# Altium footprint library mcu-chip.PcbLib: 82 footprints (part 2 of 6)
Each footprint in its own frame and in the unit in brackets; x right, y up, seen from the top. Pads: shape width x height; smd on the part's side, far side on the other; paste and mask are expansions set on the pad; w line width, h text height; cw(c..) or ccw(c..) is an arc to the next point about the centre after c.
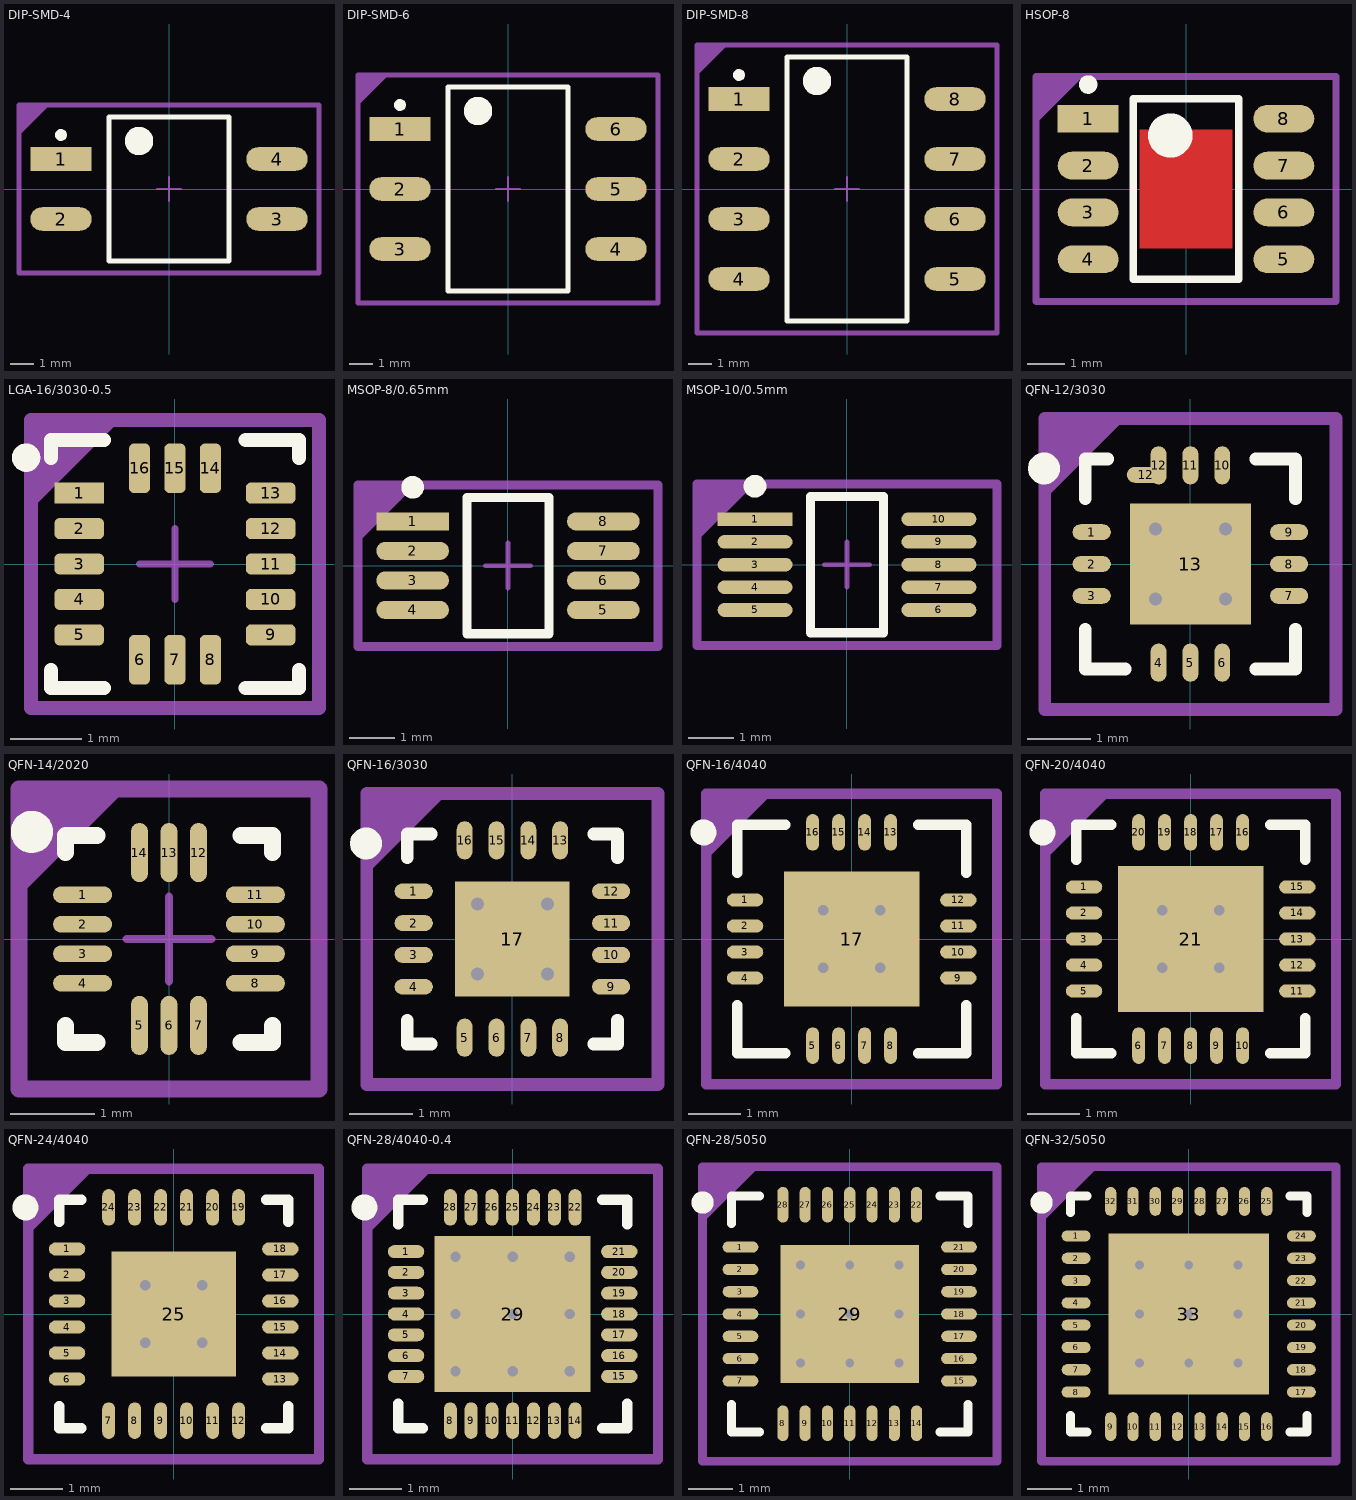
[diagram p1: the footprints below, top view; thin cyan lines are the x and y axes]

## DIP-SMD-4 [mm] "SOJ, 8-Leads, Body 4,90x6,50mm, Pitch 2,54mm, IPC Low Density"
height 5
pads (4):
  rect 2.6x1 smd: 1(-4.572,1.27)
  oval 2.6x1 smd: 2(-4.572,-1.27) 3(4.572,-1.27) 4(4.572,1.27)
Top Overlay:
  circle w0.6: c-1.27,2.032 r0.3
  circle w0.25: c-4.572,2.286 r0.125
  lines w0.2: -2.54,-3.048 2.54,-3.048 2.54,3.048 -2.54,3.048 -2.54,-3.048
Mechanical 13:
  region: -6.35,3.556 -6.35,2.286 -5.08,3.556
  lines w0.2: -6.35,-3.556 6.35,-3.556 6.35,3.556 -6.35,3.556 -6.35,-3.556
  text ".Designator" at -3.302,-1.016 h2
Mechanical 15:
  lines w0.05: -6.35,-3.556 6.35,-3.556 6.35,3.556 -6.35,3.556 -6.35,-3.556
  lines w0.1: -0.5,0 0.5,0 ; 0,-0.5 0,0.5
3D body: height 5.5, standoff 0.5, extent -3.302,-3.048 3.302,3.048

## DIP-SMD-6 [mm] "SOJ, 8-Leads, Body 4,90x6,50mm, Pitch 2,54mm, IPC Low Density"
height 5
pads (6):
  rect 2.6x1 smd: 1(-4.572,2.54)
  oval 2.6x1 smd: 2(-4.572,0) 3(-4.572,-2.54) 4(4.572,-2.54) 5(4.572,0) 6(4.572,2.54)
Top Overlay:
  circle w0.6: c-1.27,3.302 r0.3
  circle w0.25: c-4.572,3.556 r0.125
  lines w0.2: -2.54,-4.318 2.54,-4.318 2.54,4.318 -2.54,4.318 -2.54,-4.318
Mechanical 13:
  region: -6.35,4.826 -6.35,3.556 -5.08,4.826
  lines w0.2: -6.35,-4.826 6.35,-4.826 6.35,4.826 -6.35,4.826 -6.35,-4.826
  text ".Designator" at -3.302,-1.016 h2
Mechanical 15:
  lines w0.05: -6.35,-4.826 6.35,-4.826 6.35,4.826 -6.35,4.826 -6.35,-4.826
  lines w0.1: -0.5,0 0.5,0 ; 0,-0.5 0,0.5
3D body: height 5.5, standoff 0.5, extent -3.302,-4.318 3.302,4.318

## DIP-SMD-8 [mm] "SOJ, 8-Leads, Body 4,90x6,50mm, Pitch 2,54mm, IPC Low Density"
height 5
pads (8):
  rect 2.6x1 smd: 1(-4.572,3.81)
  oval 2.6x1 smd: 2(-4.572,1.27) 3(-4.572,-1.27) 4(-4.572,-3.81) 5(4.572,-3.81) 6(4.572,-1.27) 7(4.572,1.27) 8(4.572,3.81)
Top Overlay:
  circle w0.6: c-1.27,4.572 r0.3
  circle w0.25: c-4.572,4.826 r0.125
  lines w0.2: -2.54,-5.588 2.54,-5.588 2.54,5.588 -2.54,5.588 -2.54,-5.588
Mechanical 13:
  region: -6.35,6.096 -6.35,4.826 -5.08,6.096
  lines w0.2: -6.35,-6.096 6.35,-6.096 6.35,6.096 -6.35,6.096 -6.35,-6.096
  text ".Designator" at -3.302,-1.016 h2
Mechanical 15:
  lines w0.05: -6.35,-6.096 6.35,-6.096 6.35,6.096 -6.35,6.096 -6.35,-6.096
  lines w0.1: -0.5,0 0.5,0 ; 0,-0.5 0,0.5
3D body: height 5.5, standoff 0.5, extent -3.302,-5.588 3.302,5.588

## HSOP-8 [mm] "SOIC, 8-Leads, Body 4,90x3,95mm, Pitch 1,27mm, IPC Medium Density"
height 1.7
pads (8):
  rect 1.65x0.75 smd: 1(-2.65,1.905)
  oval 1.65x0.75 smd: 2(-2.65,0.635) 3(-2.65,-0.635) 4(-2.65,-1.905) 5(2.65,-1.905) 6(2.65,-0.635) 7(2.65,0.635) 8(2.65,1.905)
Top Layer:
  region: -1.25,1.6 1.25,1.6 1.25,-1.6 -1.25,-1.6
Top Overlay:
  circle w0.25: c-2.65,2.83 r0.125
  circle w0.6: c-0.425,1.45 r0.3
  lines w0.2: -1.425,-2.45 -1.425,2.45 1.425,2.45 1.425,-2.45 -1.425,-2.45
Mechanical 13:
  region: -4.064,3.048 -4.064,1.778 -2.794,3.048
  lines w0.2: -4.064,-3.048 -4.064,3.048 4.064,3.048 4.064,-3.048 -4.064,-3.048
  text ".Designator" at -2.67,-0.59 h1.6
Mechanical 15:
  lines w0.05: -4.064,-3.048 -4.064,3.048 4.064,3.048 4.064,-3.048 -4.064,-3.048
  lines w0.1: -0.5,0 0.5,0 ; 0,-0.5 0,0.5
3D body: height 1.7, standoff 0.1, extent -2,-2.45 2,2.45

## LGA-16/3030-0.5 [mm] "LGA, 16-Leads, Body 3,00x3,00mmx1,00mm, Pitch 0,50mm"
height 1
pads (16):
  rect 0.7x0.3 smd: 1(-1.35,1)
  rrect50% 0.7x0.3 smd: 2(-1.35,0.5) 3(-1.35,0) 4(-1.35,-0.5) 5(-1.35,-1) 9(1.35,-1) 10(1.35,-0.5) 11(1.35,0) 12(1.35,0.5) 13(1.35,1)
  rrect50% 0.3x0.7 smd: 6(-0.5,-1.35) 7(0,-1.35) 8(0.5,-1.35) 14(0.5,1.35) 15(0,1.35) 16(-0.5,1.35)
Top Overlay:
  circle w0.2: c-2.1,1.5 r0.1
  lines w0.2: -1.75,-1.5 -1.75,-1.75 -1,-1.75 ; -1.75,1.5 -1.75,1.75 -1,1.75 ; 1,-1.75 1.75,-1.75 1.75,-1.5 ; 1,1.75 1.75,1.75 1.75,1.5
Mechanical 13:
  region: -2.032,2.032 -2.032,0.762 -0.762,2.032
  lines w0.2: -2.032,-2.032 -2.032,2.032 2.032,2.032 2.032,-2.032 -2.032,-2.032
  text ".Designator" at -1.778,-0.508 h1
Mechanical 15:
  lines w0.05: -2.032,-2.032 -2.032,2.032 2.032,2.032 2.032,-2.032 -2.032,-2.032
  lines w0.1: -0.5,0 0.5,0 ; 0,-0.5 0,0.5
3D body: height 1, standoff 0.2, extent -1.5,-1.5 1.5,1.5

## MSOP-8/0.65mm [mm] "TSOP, 8-Leads, Body 3,00x3,00mm, Pitch 0,65mm, IPC Medium Density"
height 1
pads (8):
  rect 1.6x0.4 smd: 1(-2.1,0.975)
  oval 1.6x0.4 smd: 2(-2.1,0.325) 3(-2.1,-0.325) 4(-2.1,-0.975) 5(2.1,-0.975) 6(2.1,-0.325) 7(2.1,0.325) 8(2.1,0.975)
Top Overlay:
  circle w0.25: c-2.1,1.725 r0.125
  lines w0.2: -0.9,-1.5 0.9,-1.5 0.9,1.5 -0.9,1.5 -0.9,-1.5
Mechanical 13:
  region: -3.302,1.778 -3.302,0.508 -2.032,1.778
  lines w0.2: -3.302,-1.778 3.302,-1.778 3.302,1.778 -3.302,1.778 -3.302,-1.778
  text ".Designator" at -2.794,-0.762 h1.6
Mechanical 15:
  lines w0.05: -3.302,-1.778 3.302,-1.778 3.302,1.778 -3.302,1.778 -3.302,-1.778
  lines w0.1: -0.5,0 0.5,0 ; 0,-0.5 0,0.5
3D body: height 1, standoff 0.1, extent -1.5,-1.5 1.5,1.5

## MSOP-10/0.5mm [mm] "TSSOP, 10-Leads, Body 3,00x3,00mm, Pitch 0,50mm, IPC Medium Density"
height 1
pads (10):
  rect 1.65x0.3 smd: 1(-2.025,1)
  oval 1.65x0.3 smd: 2(-2.025,0.5) 3(-2.025,0) 4(-2.025,-0.5) 5(-2.025,-1) 6(2.025,-1) 7(2.025,-0.5) 8(2.025,0) 9(2.025,0.5) 10(2.025,1)
Top Overlay:
  circle w0.25: c-2.025,1.725 r0.125
  lines w0.2: -0.8,-1.5 -0.8,1.5 0.8,1.5 0.8,-1.5 -0.8,-1.5
Mechanical 13:
  region: -3.302,1.778 -3.302,0.508 -2.032,1.778
  lines w0.2: -3.302,-1.778 -3.302,1.778 3.302,1.778 3.302,-1.778 -3.302,-1.778
  text ".Designator" at -2.794,-0.762 h1.6
Mechanical 15:
  lines w0.05: -3.302,-1.778 -3.302,1.778 3.302,1.778 3.302,-1.778 -3.302,-1.778
  lines w0.1: -0.5,0 0.5,0 ; 0,-0.5 0,0.5
3D body: height 1, standoff 0.1, extent -1.5,-1.5 1.5,1.5

## QFN-12/3030 [mm] "QFN, 12-Leads, Body 3,00x3,00mm, Pitch 0,50mm, Thermal Pad 1,90x1,90mm, IPC Medium Density"
height 0.9
pads (14):
  oval 0.6x0.25 smd: 1(-1.55,0.5) 2(-1.55,0) 3(-1.55,-0.5) 7(1.55,-0.5) 8(1.55,0) 9(1.55,0.5) 12(-0.7,1.4)
  oval 0.25x0.6 smd: 4(-0.5,-1.55) 5(0,-1.55) 6(0.5,-1.55) 10(0.5,1.55) 11(0,1.55) 12(-0.5,1.55)
  rect 1.9x1.9 smd: 13(0,0)
via 0.55,-0.55 diameter 0.5 hole 0.2
via -0.55,-0.55 diameter 0.5 hole 0.2
via 0.55,0.55 diameter 0.5 hole 0.2
via -0.55,0.55 diameter 0.5 hole 0.2
Top Overlay:
  circle w0.25: c-2.3,1.5 r0.125
  lines w0.2: -1.65,-1.025 -1.65,-1.65 -1.025,-1.65 ; -1.65,1.025 -1.65,1.65 -1.3,1.65 ; 1.025,-1.65 1.65,-1.65 1.65,-1.025 ; 1.025,1.65 1.65,1.65 1.65,1.025
Mechanical 13:
  region: -2.286,2.286 -2.286,1.016 -1.016,2.286
  lines w0.2: -2.286,-2.286 2.286,-2.286 2.286,2.286 -2.286,2.286 -2.286,-2.286
  text ".Designator" at -2.032,-0.508 h1.2
Mechanical 15:
  lines w0.05: -2.286,-2.286 2.286,-2.286 2.286,2.286 -2.286,2.286 -2.286,-2.286
  lines w0.1: -0.5,0 0.5,0 ; 0,-0.5 0,0.5
3D body: height 0.9, standoff 0.1, extent -1.5,-1.5 1.5,1.5

## QFN-14/2020 [mm] "QFN, 14-Leads, Body 2.00x2.00mm, Pitch 0.35mm, Thermal Pad 1.00x1.00mm, IPC Medium Density"
height 1
pads (14):
  oval 0.7x0.2 smd: 1(-1.025,0.525) 2(-1.025,0.175) 3(-1.025,-0.175) 4(-1.025,-0.525) 8(1.025,-0.525) 9(1.025,-0.175) 10(1.025,0.175) 11(1.025,0.525)
  oval 0.2x0.7 smd: 5(-0.35,-1.025) 6(0,-1.025) 7(0.35,-1.025) 12(0.35,1.025) 13(0,1.025) 14(-0.35,1.025)
Top Overlay:
  circle w0.25: c-1.625,1.27 r0.125
  lines w0.2: -1.225,-1.025 -1.225,-1.225 -0.85,-1.225 ; -1.225,1.025 -1.225,1.225 -0.85,1.225 ; 0.85,-1.225 1.225,-1.225 1.225,-1.025 ; 0.85,1.225 1.225,1.225 1.225,1.025
Mechanical 13:
  region: -1.778,1.778 -1.778,0.508 -0.508,1.778
  lines w0.2: -1.778,-1.778 -1.778,1.778 1.778,1.778 1.778,-1.778 -1.778,-1.778
  text ".Designator" at -1.524,-0.254 h0.8
Mechanical 15:
  lines w0.05: -1.778,-1.778 -1.778,1.778 1.778,1.778 1.778,-1.778 -1.778,-1.778
  lines w0.1: -0.5,0 0.5,0 ; 0,-0.5 0,0.5
3D body: height 1, standoff 0.1, extent -1.075,-1.075 1.075,1.075

## QFN-16/3030 [mm] "QFN, 16-Leads, Body 3,00x3,00mm, Pitch 0,50mm, Thermal Pad 1,80x1,80mm, IPC Medium Density"
height 0.9
pads (17):
  oval 0.6x0.25 smd: 1(-1.55,0.75) 2(-1.55,0.25) 3(-1.55,-0.25) 4(-1.55,-0.75) 9(1.55,-0.75) 10(1.55,-0.25) 11(1.55,0.25) 12(1.55,0.75)
  oval 0.25x0.6 smd: 5(-0.75,-1.55) 6(-0.25,-1.55) 7(0.25,-1.55) 8(0.75,-1.55) 13(0.75,1.55) 14(0.25,1.55) 15(-0.25,1.55) 16(-0.75,1.55)
  rect 1.8x1.8 smd: 17(0,0)
via 0.55,-0.55 diameter 0.5 hole 0.2
via -0.55,-0.55 diameter 0.5 hole 0.2
via 0.55,0.55 diameter 0.5 hole 0.2
via -0.55,0.55 diameter 0.5 hole 0.2
Top Overlay:
  circle w0.25: c-2.3,1.5 r0.125
  lines w0.2: -1.65,-1.275 -1.65,-1.65 -1.275,-1.65 ; -1.65,1.275 -1.65,1.65 -1.275,1.65 ; 1.275,-1.65 1.65,-1.65 1.65,-1.275 ; 1.275,1.65 1.65,1.65 1.65,1.275
Mechanical 13:
  region: -2.286,2.286 -2.286,1.016 -1.016,2.286
  lines w0.2: -2.286,-2.286 2.286,-2.286 2.286,2.286 -2.286,2.286 -2.286,-2.286
  text ".Designator" at -1.82,-0.46 h1.1
Mechanical 15:
  lines w0.05: -2.286,-2.286 2.286,-2.286 2.286,2.286 -2.286,2.286 -2.286,-2.286
  lines w0.1: -0.5,0 0.5,0 ; 0,-0.5 0,0.5
3D body: height 0.9, standoff 0.1, extent -1.5,-1.5 1.5,1.5

## QFN-16/4040 [mm] "QFN, 16-Leads, Body 4,00x4,00mm, Pitch 0,50mm, Thermal Pad 2,60x2,60mm, IPC Medium Density"
height 0.9
pads (17):
  oval 0.7x0.25 smd: 1(-2.05,0.75) 2(-2.05,0.25) 3(-2.05,-0.25) 4(-2.05,-0.75) 9(2.05,-0.75) 10(2.05,-0.25) 11(2.05,0.25) 12(2.05,0.75)
  oval 0.25x0.7 smd: 5(-0.75,-2.05) 6(-0.25,-2.05) 7(0.25,-2.05) 8(0.75,-2.05) 13(0.75,2.05) 14(0.25,2.05) 15(-0.25,2.05) 16(-0.75,2.05)
  rect 2.6x2.6 smd: 17(0,0)
via 0.55,-0.55 diameter 0.5 hole 0.2
via -0.55,-0.55 diameter 0.5 hole 0.2
via 0.55,0.55 diameter 0.5 hole 0.2
via -0.55,0.55 diameter 0.5 hole 0.2
Top Overlay:
  circle w0.25: c-2.85,2.05 r0.125
  lines w0.2: -2.2,-1.275 -2.2,-2.2 -1.275,-2.2 ; -2.2,1.275 -2.2,2.2 -1.275,2.2 ; 1.275,-2.2 2.2,-2.2 2.2,-1.275 ; 1.275,2.2 2.2,2.2 2.2,1.275
Mechanical 13:
  region: -2.794,2.794 -2.794,1.524 -1.524,2.794
  lines w0.2: -2.794,-2.794 2.794,-2.794 2.794,2.794 -2.794,2.794 -2.794,-2.794
  text ".Designator" at -2.01,-0.51 h1.2
Mechanical 15:
  lines w0.05: -2.794,-2.794 2.794,-2.794 2.794,2.794 -2.794,2.794 -2.794,-2.794
  lines w0.1: -0.5,0 0.5,0 ; 0,-0.5 0,0.5
3D body: height 0.9, standoff 0.1, extent -2.05,-2.05 2.05,2.05

## QFN-20/4040 [mm] "QFN, 20-Leads, Body 4,00x4,00mm, Pitch 0,50mm, Thermal Pad 2,80x2,80mm, IPC Medium Density"
height 0.9
pads (21):
  oval 0.7x0.25 smd: 1(-2.05,1) 2(-2.05,0.5) 3(-2.05,0) 4(-2.05,-0.5) 5(-2.05,-1) 11(2.05,-1) 12(2.05,-0.5) 13(2.05,0) 14(2.05,0.5) 15(2.05,1)
  oval 0.25x0.7 smd: 6(-1,-2.05) 7(-0.5,-2.05) 8(0,-2.05) 9(0.5,-2.05) 10(1,-2.05) 16(1,2.05) 17(0.5,2.05) 18(0,2.05) 19(-0.5,2.05) 20(-1,2.05)
  rect 2.8x2.8 smd: 21(0,0)
via -0.55,0.55 diameter 0.5 hole 0.2
via 0.55,0.55 diameter 0.5 hole 0.2
via -0.55,-0.55 diameter 0.5 hole 0.2
via 0.55,-0.55 diameter 0.5 hole 0.2
Top Overlay:
  circle w0.25: c-2.85,2.05 r0.125
  lines w0.2: -2.2,-1.525 -2.2,-2.2 -1.525,-2.2 ; -2.2,1.525 -2.2,2.2 -1.525,2.2 ; 1.525,-2.2 2.2,-2.2 2.2,-1.525 ; 1.525,2.2 2.2,2.2 2.2,1.525
Mechanical 13:
  region: -2.794,2.794 -2.794,1.524 -1.524,2.794
  lines w0.2: -2.794,-2.794 -2.794,2.794 2.794,2.794 2.794,-2.794 -2.794,-2.794
  text ".Designator" at -2.32,-0.59 h1.4
Mechanical 15:
  lines w0.05: -2.794,-2.794 -2.794,2.794 2.794,2.794 2.794,-2.794 -2.794,-2.794
  lines w0.1: -0.5,0 0.5,0 ; 0,-0.5 0,0.5
3D body: height 0.9, standoff 0.1, extent -2.05,-2.05 2.05,2.05

## QFN-24/4040 [mm] "QFN, 24-Leads, Body 4,00x4,00mm, Pitch 0,50mm, Thermal Pad 2,40x2,40mm, IPC Medium Density"
height 0.9
pads (25):
  oval 0.7x0.25 smd: 1(-2.05,1.25) 2(-2.05,0.75) 3(-2.05,0.25) 4(-2.05,-0.25) 5(-2.05,-0.75) 6(-2.05,-1.25) 13(2.05,-1.25) 14(2.05,-0.75) 15(2.05,-0.25) 16(2.05,0.25) 17(2.05,0.75) 18(2.05,1.25)
  oval 0.25x0.7 smd: 7(-1.25,-2.05) 8(-0.75,-2.05) 9(-0.25,-2.05) 10(0.25,-2.05) 11(0.75,-2.05) 12(1.25,-2.05) 19(1.25,2.05) 20(0.75,2.05) 21(0.25,2.05) 22(-0.25,2.05) 23(-0.75,2.05) 24(-1.25,2.05)
  rect 2.4x2.4 smd: 25(0,0)
via 0.55,-0.55 diameter 0.5 hole 0.2
via -0.55,-0.55 diameter 0.5 hole 0.2
via 0.55,0.55 diameter 0.5 hole 0.2
via -0.55,0.55 diameter 0.5 hole 0.2
Top Overlay:
  circle w0.25: c-2.85,2.05 r0.125
  lines w0.2: -2.2,-1.775 -2.2,-2.2 -1.775,-2.2 ; -2.2,1.775 -2.2,2.2 -1.775,2.2 ; 1.775,-2.2 2.2,-2.2 2.2,-1.775 ; 1.775,2.2 2.2,2.2 2.2,1.775
Mechanical 13:
  region: -2.794,2.794 -2.794,1.524 -1.524,2.794
  lines w0.2: -2.794,-2.794 2.794,-2.794 2.794,2.794 -2.794,2.794 -2.794,-2.794
  text ".Designator" at -2.32,-0.68 h1.4
Mechanical 15:
  lines w0.05: -2.794,-2.794 2.794,-2.794 2.794,2.794 -2.794,2.794 -2.794,-2.794
  lines w0.1: -0.5,0 0.5,0 ; 0,-0.5 0,0.5
3D body: height 0.9, standoff 0.1, extent -2.05,-2.05 2.05,2.05

## QFN-28/4040-0.4 [mm] "QFN, 28-Leads, Body 4,00x4,00mm, Pitch 0,40mm, Thermal Pad 3,00x3,00mm, IPC Medium Density"
height 0.9
pads (29):
  oval 0.7x0.25 smd: 1(-2.05,1.2) 2(-2.05,0.8) 3(-2.05,0.4) 4(-2.05,0) 5(-2.05,-0.4) 6(-2.05,-0.8) 7(-2.05,-1.2) 15(2.05,-1.2) 16(2.05,-0.8) 17(2.05,-0.4) 18(2.05,0) 19(2.05,0.4) 20(2.05,0.8) 21(2.05,1.2)
  oval 0.25x0.7 smd: 8(-1.2,-2.05) 9(-0.8,-2.05) 10(-0.4,-2.05) 11(0,-2.05) 12(0.4,-2.05) 13(0.8,-2.05) 14(1.2,-2.05) 22(1.2,2.05) 23(0.8,2.05) 24(0.4,2.05) 25(0,2.05) 26(-0.4,2.05) 27(-0.8,2.05) 28(-1.2,2.05)
  rect 3x3 smd: 29(0,0)
via 1.1,-1.1 diameter 0.5 hole 0.2
via 0,-1.1 diameter 0.5 hole 0.2
via -1.1,-1.1 diameter 0.5 hole 0.2
via 1.1,0 diameter 0.5 hole 0.2
via 0,0 diameter 0.5 hole 0.2
via -1.1,0 diameter 0.5 hole 0.2
via 1.1,1.1 diameter 0.5 hole 0.2
via 0,1.1 diameter 0.5 hole 0.2
via -1.1,1.1 diameter 0.5 hole 0.2
Top Overlay:
  circle w0.25: c-2.85,2.05 r0.125
  lines w0.2: -2.2,-1.725 -2.2,-2.2 -1.725,-2.2 ; -2.2,1.725 -2.2,2.2 -1.725,2.2 ; 1.725,-2.2 2.2,-2.2 2.2,-1.725 ; 1.725,2.2 2.2,2.2 2.2,1.725
Mechanical 13:
  region: -2.794,2.794 -2.794,1.524 -1.524,2.794
  lines w0.2: -2.794,-2.794 2.794,-2.794 2.794,2.794 -2.794,2.794 -2.794,-2.794
  text ".Designator" at -2.33,-0.67 h1.4
Mechanical 15:
  lines w0.05: -2.794,-2.794 2.794,-2.794 2.794,2.794 -2.794,2.794 -2.794,-2.794
  lines w0.1: -0.5,0 0.5,0 ; 0,-0.5 0,0.5
3D body: height 0.9, standoff 0.1, extent -2.05,-2.05 2.05,2.05

## QFN-28/5050 [mm] "QFN, 28-Leads, Body 5,00x5,00mm, Pitch 0,50mm, Thermal Pad 3,10x3,10mm, IPC Medium Density"
height 0.9
pads (29):
  oval 0.8x0.25 smd: 1(-2.45,1.5) 2(-2.45,1) 3(-2.45,0.5) 4(-2.45,0) 5(-2.45,-0.5) 6(-2.45,-1) 7(-2.45,-1.5) 15(2.45,-1.5) 16(2.45,-1) 17(2.45,-0.5) 18(2.45,0) 19(2.45,0.5) 20(2.45,1) 21(2.45,1.5)
  oval 0.25x0.8 smd: 8(-1.5,-2.45) 9(-1,-2.45) 10(-0.5,-2.45) 11(0,-2.45) 12(0.5,-2.45) 13(1,-2.45) 14(1.5,-2.45) 22(1.5,2.45) 23(1,2.45) 24(0.5,2.45) 25(0,2.45) 26(-0.5,2.45) 27(-1,2.45) 28(-1.5,2.45)
  rect 3.1x3.1 smd: 29(0,0)
via -1.1,1.1 diameter 0.5 hole 0.2
via 0,1.1 diameter 0.5 hole 0.2
via 1.1,1.1 diameter 0.5 hole 0.2
via -1.1,0 diameter 0.5 hole 0.2
via 0,0 diameter 0.5 hole 0.2
via 1.1,0 diameter 0.5 hole 0.2
via -1.1,-1.1 diameter 0.5 hole 0.2
via 0,-1.1 diameter 0.5 hole 0.2
via 1.1,-1.1 diameter 0.5 hole 0.2
Top Overlay:
  circle w0.25: c-3.3,2.5 r0.125
  lines w0.2: -2.65,-2.025 -2.65,-2.65 -2.025,-2.65 ; -2.65,2.025 -2.65,2.65 -2.025,2.65 ; 2.025,-2.65 2.65,-2.65 2.65,-2.025 ; 2.025,2.65 2.65,2.65 2.65,2.025
Mechanical 13:
  region: -3.302,3.302 -3.302,2.032 -2.032,3.302
  lines w0.2: -3.302,-3.302 -3.302,3.302 3.302,3.302 3.302,-3.302 -3.302,-3.302
  text ".Designator" at -2.41,-0.68 h1.4
Mechanical 15:
  lines w0.05: -3.302,-3.302 -3.302,3.302 3.302,3.302 3.302,-3.302 -3.302,-3.302
  lines w0.1: -0.5,0 0.5,0 ; 0,-0.5 0,0.5
3D body: height 0.9, standoff 0.1, extent -2.5,-2.5 2.5,2.5

## QFN-32/5050 [mm] "QFN, 32-Leads, Body 5,00x5,00mm, Pitch 0,50mm, Thermal Pad 3,60x3,60mm, IPC Medium Density"
height 0.9
pads (33):
  oval 0.65x0.25 smd: 1(-2.525,1.75) 2(-2.525,1.25) 3(-2.525,0.75) 4(-2.525,0.25) 5(-2.525,-0.25) 6(-2.525,-0.75) 7(-2.525,-1.25) 8(-2.525,-1.75) 17(2.525,-1.75) 18(2.525,-1.25) 19(2.525,-0.75) 20(2.525,-0.25) 21(2.525,0.25) 22(2.525,0.75) 23(2.525,1.25) 24(2.525,1.75)
  oval 0.25x0.65 smd: 9(-1.75,-2.525) 10(-1.25,-2.525) 11(-0.75,-2.525) 12(-0.25,-2.525) 13(0.25,-2.525) 14(0.75,-2.525) 15(1.25,-2.525) 16(1.75,-2.525) 25(1.75,2.525) 26(1.25,2.525) 27(0.75,2.525) 28(0.25,2.525) 29(-0.25,2.525) 30(-0.75,2.525) 31(-1.25,2.525) 32(-1.75,2.525)
  rect 3.6x3.6 smd: 33(0,0)
via 1.1,-1.1 diameter 0.5 hole 0.2
via 0,-1.1 diameter 0.5 hole 0.2
via -1.1,-1.1 diameter 0.5 hole 0.2
via 1.1,0 diameter 0.5 hole 0.2
via 0,0 diameter 0.5 hole 0.2
via -1.1,0 diameter 0.5 hole 0.2
via 1.1,1.1 diameter 0.5 hole 0.2
via 0,1.1 diameter 0.5 hole 0.2
via -1.1,1.1 diameter 0.5 hole 0.2
Top Overlay:
  circle w0.25: c-3.3,2.5 r0.125
  lines w0.2: -2.65,-2.275 -2.65,-2.65 -2.275,-2.65 ; -2.65,2.275 -2.65,2.65 -2.275,2.65 ; 2.275,-2.65 2.65,-2.65 2.65,-2.275 ; 2.275,2.65 2.65,2.65 2.65,2.275
Mechanical 13:
  region: -3.302,3.302 -3.302,2.032 -2.032,3.302
  lines w0.2: -3.302,-3.302 3.302,-3.302 3.302,3.302 -3.302,3.302 -3.302,-3.302
  text ".Designator" at -2.68,-0.71 h1.6
Mechanical 15:
  lines w0.05: -3.302,-3.302 3.302,-3.302 3.302,3.302 -3.302,3.302 -3.302,-3.302
  lines w0.1: -0.5,0 0.5,0 ; 0,-0.5 0,0.5
3D body: height 0.9, standoff 0.1, extent -2.5,-2.5 2.5,2.5